# Altium schematic symbol library DK636 LED Display.SchLib: 1 symbol
Pins are listed as number, name and electrical type; pins without a type are passive.

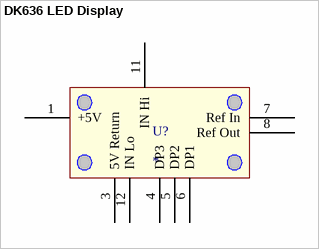
[diagram p0: symbol DK636 LED Display]

## DK636 LED Display
designator U?
pins: 1 +5V, 3 5V Return, 4 DP3, 5 DP2, 6 DP1, 7 Ref In, 8 Ref Out, 11 IN Hi, 12 IN Lo